# Altium footprint library PCB.PcbLib: 20 footprints (part 1 of 2)
Each footprint in its own frame and in the unit in brackets; x right, y up, seen from the top. Pads: shape width x height; smd on the part's side, far side on the other; paste and mask are expansions set on the pad; w line width, h text height; cw(c..) or ccw(c..) is an arc to the next point about the centre after c.
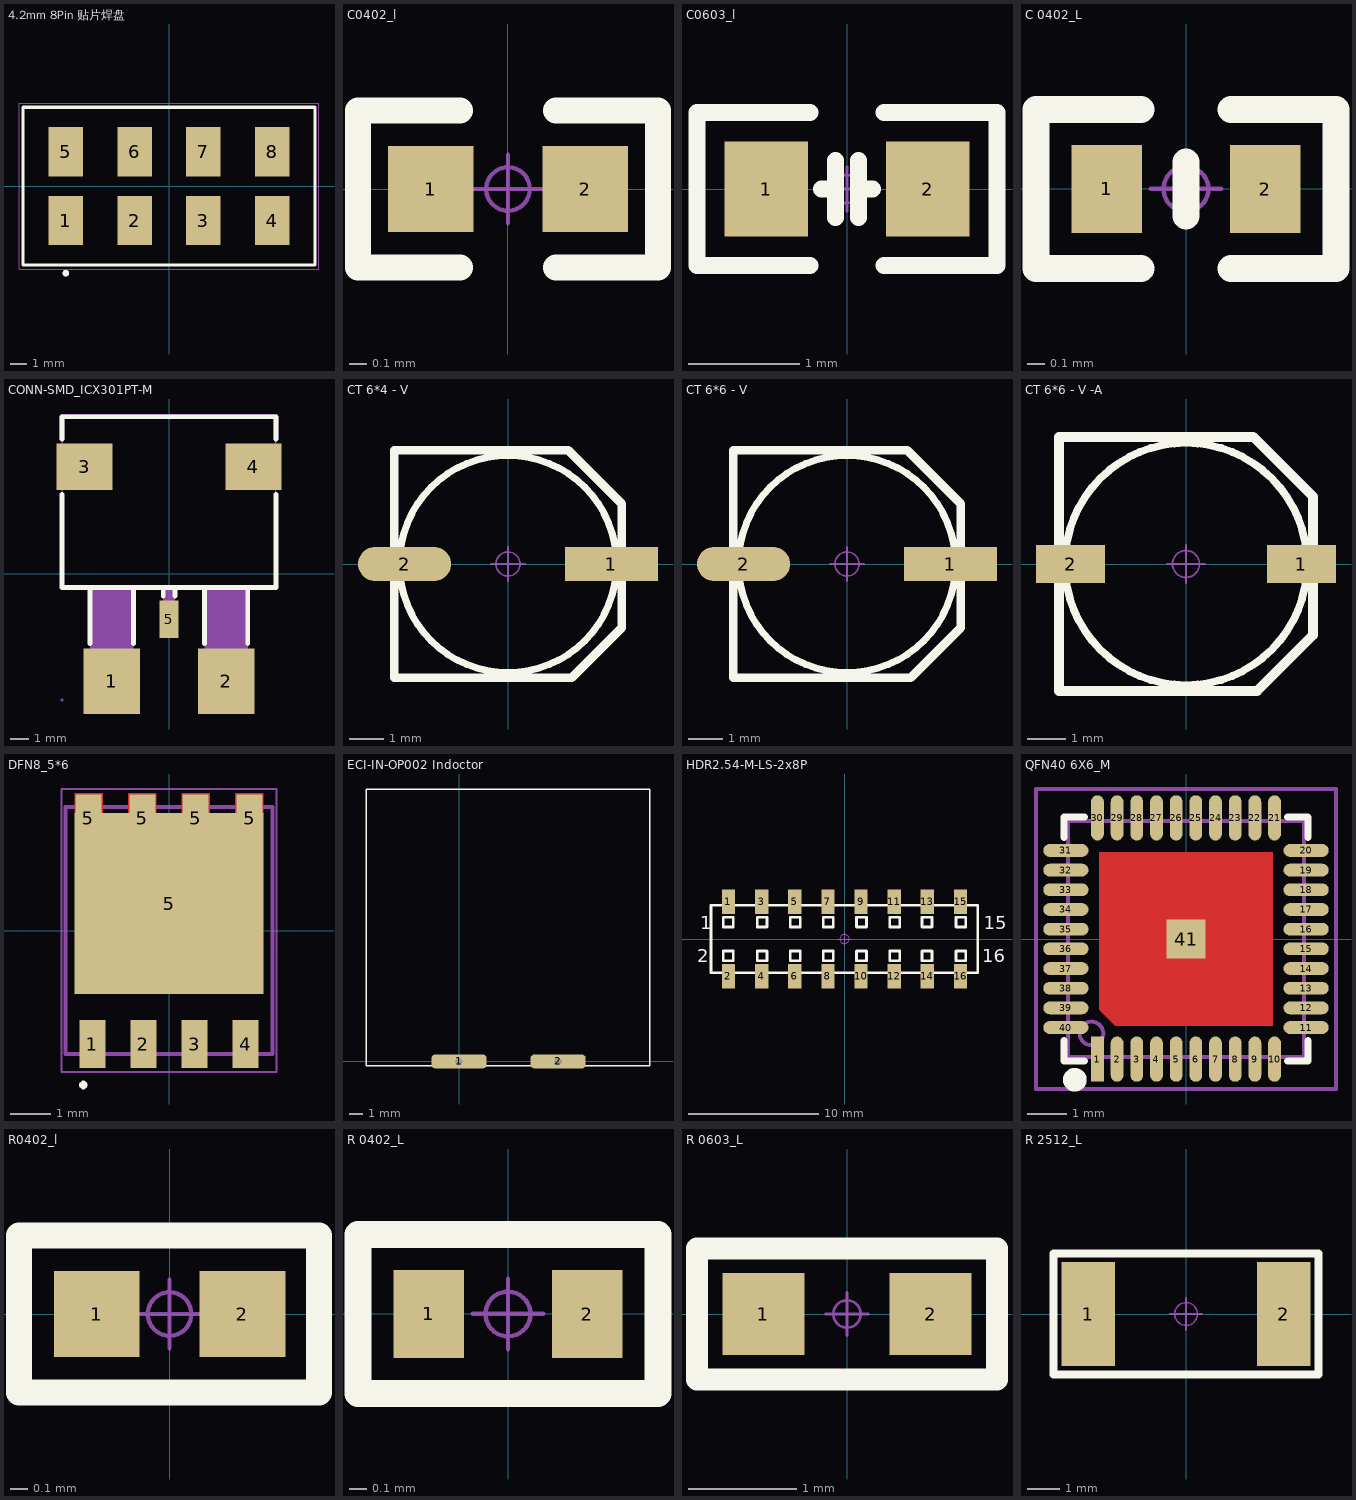
[diagram p0: the footprints below, top view; thin cyan lines are the x and y axes]

## 4.2mm 8Pin 贴片焊盘 [mm] "4.2mm 8Pin 贴片焊盘"
pads (8):
  rect 2.1x3 smd: 1(-6.285,-2.1) 2(-2.095,-2.1) 3(2.095,-2.1) 4(6.285,-2.1) 5(-6.285,2.1) 6(-2.095,2.1) 7(2.095,2.1) 8(6.285,2.1)
Top Overlay:
  circle w0.2: c-6.285,-5.3 r0.1
  lines w0.2: -8.885,-4.8 -8.885,4.8 8.885,4.8 8.885,-4.8 -8.885,-4.8
Mechanical 13:
  circle w0.2: c-6.285,-5.3 r0.1
  lines w0.1: -8.885,-4.8 -8.885,4.8 8.885,4.8 8.885,-4.8 -8.885,-4.8
Mechanical 15:
  lines w0.05: -9.135,-5.05 -9.135,5.05 9.135,5.05 9.135,-5.05 -9.135,-5.05

## C0402_l [mm] "贴片MLCC电容"
height 1.1
pads (2):
  rect 0.5x0.5 smd: 1(-0.45,0) 2(0.45,0)
Top Overlay:
  lines w0.152: -0.279,-0.457 -0.875,-0.457 -0.875,0.457 -0.279,0.457 ; 0.279,-0.457 0.875,-0.457 0.875,0.457 0.279,0.457
Mechanical 15:
  circle w0.025: c0,0 r0.127
  lines w0.025: -0.2,0 0.2,0 ; 0,-0.2 0,0.2
3D body "C0402-B-2S.stp": height 0.5, standoff 0, extent -0.5,-0.25 0.5,0.25

## C0603_l [mm] "贴片MLCC电容"
height 1.1
pads (2):
  rect 0.75x0.85 smd: 1(-0.725,0) 2(0.725,0)
Top Overlay:
  lines w0.152: -0.33,-0.686 -1.346,-0.686 -1.346,0.686 -0.33,0.686 ; -0.229,0 -0.102,0 ; -0.102,-0.254 -0.102,0.254 ; 0.102,-0.254 0.102,0.254 ; 0.102,0 0.229,0 ; 0.33,-0.686 1.346,-0.686 1.346,0.686 0.33,0.686
Mechanical 15:
  circle w0.025: c0,0 r0.127
  lines w0.025: -0.2,0 0.2,0 ; 0,-0.2 0,0.2
3D body "C0603H08-2S.stp": height 0.8, standoff 0, extent -0.8,-0.4 0.8,0.4

## C 0402_L [mm] "无极性贴片电容"
pads (2):
  rect 0.4x0.5 smd: 1(-0.45,0) 2(0.45,0)
Top Overlay:
  lines w0.152: -0.254,-0.45 -0.85,-0.45 ; -0.254,0.45 -0.85,0.45 -0.85,-0.45 ; 0,-0.152 0,0.152 ; 0.254,-0.45 0.85,-0.45 0.85,0.45 0.254,0.45 ; -0.85,-0.45 -0.85,-0.45
Mechanical 15:
  circle w0.025: c0,0 r0.127
  lines w0.025: -0.2,0 0.2,0 ; 0,-0.2 0,0.2
3D body "C 0402.STEP": height 0.53, standoff 0.01, extent -0.5,-0.26 0.5,0.26

## CONN-SMD_ICX301PT-M [mm]
height 1.1
pads (5):
  rect 3x3.5 smd paste+0: 1(-3.05,-5.715) 2(3.05,-5.715)
  rect 3x2.5 smd paste+0: 3(-4.5,5.715) 4(4.5,5.715)
  rect 1x2 smd paste+0: 5(0,-2.415)
Top Overlay:
  lines w0.254: -5.7,4.234 -5.7,-0.715 5.7,-0.715 5.7,4.234 ; -5.7,7.196 -5.7,8.385 5.7,8.385 5.7,7.196 ; -4.204,-3.7 -4.204,-0.715 ; -1.899,-3.7 -1.899,-0.715 ; -0.303,-1.184 -0.303,-0.715 ; 0.313,-1.184 0.313,-0.715 ; 1.896,-3.7 1.896,-0.715 ; 4.201,-3.7 4.201,-0.715
Mechanical 6:
  region: -5.827,7.2 -5.827,8.4 -5.827,8.425 -5.808,8.472 -5.772,8.508 -5.725,8.527 -5.7,8.527 5.7,8.527 5.725,8.527 5.772,8.508 5.808,8.472 5.827,8.425 5.827,8.4 5.827,7.2 5.827,7.147 5.753,7.073 5.647,7.073 5.573,7.147 5.573,7.2 5.573,8.273 -5.573,8.273 -5.573,7.2 -5.573,7.147 -5.647,7.073 -5.753,7.073 -5.827,7.147 -5.827,7.2
Mechanical 13:
  region: 3.3,4.815 3.3,6.615 5.7,6.615 5.7,4.815
  region: -3.3,6.615 -3.3,4.815 -5.7,4.815 -5.7,6.615
  region: -4.2,-4.315 -4.2,-0.615 -1.9,-0.615 -1.9,-4.315
  region: 1.9,-4.315 1.9,-0.615 4.2,-0.615 4.2,-4.315
  region: -4.25,-6.715 -4.25,-4.215 -1.85,-4.215 -1.85,-6.715
  region: 1.85,-6.715 1.85,-4.215 4.25,-4.215 4.25,-6.715
  region: -0.315,-1.795 0.315,-1.795 0.315,-3.095 -0.315,-3.095
  region: -0.315,-0.595 0.315,-0.595 0.315,-1.895 -0.315,-1.895
  lines w0.051: -5.7,-0.715 5.7,-0.715 5.7,8.385 -5.7,8.385 -5.7,-0.715
Mechanical 15:
  region: -5.7,-6.655 -5.675,-6.655 -5.64,-6.69 -5.64,-6.74 -5.675,-6.775 -5.7,-6.775 -5.725,-6.775 -5.76,-6.74 -5.76,-6.69 -5.725,-6.655 -5.7,-6.655
3D body "CN1~CONN-SMD_ICX301PT-M~icx301pt_m~vOsH.STEP": height 4.7, standoff -0.2, extent -5.65,-6.686 5.65,8.414

## CT 6*4 - V [mm] "直径6mm，高4mm"
height 1.1
pads (2):
  rect 2.7x1 smd: 1(3,0)
  oval 2.7x1 smd: 2(-3,0)
Top Overlay:
  circle w0.2: c0,0 r3.15
  lines w0.254: -3.3,-3.3 1.85,-3.3 3.3,-1.85 3.3,1.75 1.75,3.3 -3.3,3.3 -3.3,-3.3
Mechanical 15:
  circle w0.05: c0,0 r0.35
  lines w0.05: -0.5,0 0.5,0 ; 0,-0.5 0,0.5
3D body "CT 6X4-V.STEP": height 4, standoff -0.01, extent -3.5,-3.15 3.5,3.15

## CT 6*6 - V [mm] "直径6mm，高6mm"
height 1.1
pads (2):
  rect 2.7x1 smd: 1(3,0)
  oval 2.7x1 smd: 2(-3,0)
Top Overlay:
  circle w0.2: c0,0 r3.15
  lines w0.254: -3.3,-3.3 -3.3,3.3 1.75,3.3 3.3,1.75 3.3,-1.85 1.85,-3.3 -3.3,-3.3
Mechanical 15:
  circle w0.05: c0,0 r0.35
  lines w0.05: -0.5,0 0.5,0 ; 0,-0.5 0,0.5
3D body "CT 6X6-V.STEP": height 6, standoff -0.01, extent -3.5,-3.15 3.5,3.15

## CT 6*6 - V -A [mm] "直径6mm，高6mm"
height 1.1
pads (2):
  rect 1.8x1 smd: 1(3,0) 2(-3,0)
Top Overlay:
  circle w0.2: c0,0 r3.15
  lines w0.254: -3.3,-3.3 -3.3,3.3 1.75,3.3 3.3,1.75 3.3,-1.85 1.85,-3.3 -3.3,-3.3
Mechanical 15:
  circle w0.05: c0,0 r0.35
  lines w0.05: -0.5,0 0.5,0 ; 0,-0.5 0,0.5
3D body "CT 6X6-V.STEP": height 6, standoff -0.01, extent -3.5,-3.15 3.5,3.15

## DFN8_5*6 [mm] "TDSON, 8-Leads, Body 6.15x5.15mm, Pitch 1.27mm"
height 1
pads (9):
  rect 0.65x1.2 smd: 1(-1.905,-2.825) 2(-0.635,-2.825) 3(0.635,-2.825) 4(1.905,-2.825) 5(-2.007,2.794) 5(-0.66,2.794) 5(0.66,2.794) 5(2.007,2.794)
  rect 4.7x4.5 smd: 5(0,0.675)
Top Layer:
  region: 0.315,2.925 1.015,2.925 1.015,3.425 0.315,3.425
  region: -1.015,2.925 -0.315,2.925 -0.315,3.425 -1.015,3.425
  region: 1.65,2.925 2.35,2.925 2.35,3.425 1.65,3.425
  region: -2.35,2.925 -1.65,2.925 -1.65,3.425 -2.35,3.425
Top Overlay:
  region: -2.234,-3.842 -2.234,-3.862 -2.218,-3.899 -2.19,-3.927 -2.153,-3.942 -2.134,-3.942 -2.114,-3.942 -2.077,-3.927 -2.049,-3.899 -2.034,-3.862 -2.034,-3.842 -2.034,-3.822 -2.049,-3.785 -2.077,-3.757 -2.114,-3.742 -2.134,-3.742 -2.153,-3.742 -2.19,-3.757 -2.218,-3.785 -2.234,-3.822
Mechanical 13:
  lines w0.1: -2.575,-3.075 2.575,-3.075 2.575,3.075 -2.575,3.075 -2.575,-3.075
Mechanical 15:
  lines w0.05: -2.675,-3.525 2.675,-3.525 2.675,3.525 -2.675,3.525 -2.675,-3.525
  lines w0.1: -0.5,0 0.5,0 ; 0,-0.5 0,0.5
3D body: height 1, standoff 0, extent -2.575,-3.075 2.575,3.075

## ECI-IN-OP002 Indoctor [mm] "大电流扁线电感"
pads (2):
  rrect50% 4x1 hole 0.5 square: 1(0,0) 2(7.2,0)
Top Overlay:
  lines w0.1: -6.744,-0.305 -6.744,19.79 13.856,19.79 13.856,-0.305 -6.744,-0.305
3D body "ECI-IN-OP002 Indoctor.STEP": height 10.02, standoff 0.02, extent -6.744,-0.305 13.856,19.79

## HDR2.54-M-LS-2x8P [mm] "脚距：2.54mm，贴片双排母"
height 1.1
pads (16):
  rect 1.02x1.9 smd: 1(-8.89,2.85) 2(-8.89,-2.85) 3(-6.35,2.85) 4(-6.35,-2.85) 5(-3.81,2.85) 6(-3.81,-2.85) 7(-1.27,2.85) 8(-1.27,-2.85) 9(1.27,2.85) 10(1.27,-2.85) 11(3.81,2.85) 12(3.81,-2.85) 13(6.35,2.85) 14(6.35,-2.85) 15(8.89,2.85) 16(8.89,-2.85)
Top Overlay:
  lines w0.2: -10.23,-2.6 -10.23,2.6 10.22,2.6 10.22,-2.6 -10.23,-2.6 ; -9.301,-1.681 -9.301,-0.919 -8.539,-0.919 -8.539,-1.681 -9.301,-1.681 ; -9.301,0.919 -9.301,1.681 -8.539,1.681 -8.539,0.919 -9.301,0.919 ; -6.701,-1.681 -6.701,-0.919 -5.939,-0.919 -5.939,-1.681 -6.701,-1.681 ; -6.701,0.919 -6.701,1.681 -5.939,1.681 -5.939,0.919 -6.701,0.919 ; -4.161,-1.681 -3.399,-1.681 -3.399,-0.919 -4.161,-0.919 -4.161,-1.681 ; -4.161,0.919 -3.399,0.919 -3.399,1.681 -4.161,1.681 -4.161,0.919 ; -1.621,-1.681 -1.621,-0.919 -0.859,-0.919 -0.859,-1.681 -1.621,-1.681 ; -1.621,0.919 -1.621,1.681 -0.859,1.681 -0.859,0.919 -1.621,0.919 ; 0.919,-1.681 0.919,-0.919 1.681,-0.919 1.681,-1.681 0.919,-1.681 ; 0.919,0.919 0.919,1.681 1.681,1.681 1.681,0.919 0.919,0.919 ; 3.459,-1.681 3.459,-0.919 4.221,-0.919 4.221,-1.681 3.459,-1.681 ; 3.459,0.919 3.459,1.681 4.221,1.681 4.221,0.919 3.459,0.919 ; 5.939,-1.681 6.701,-1.681 6.701,-0.919 5.939,-0.919 5.939,-1.681 ; 5.939,0.919 6.701,0.919 6.701,1.681 5.939,1.681 5.939,0.919 ; 8.539,-1.681 9.301,-1.681 9.301,-0.919 8.539,-0.919 8.539,-1.681 ; 8.539,0.919 9.301,0.919 9.301,1.681 8.539,1.681 8.539,0.919
  text "16" at 10.541,-1.778 h1.02
  text "15" at 10.668,0.762 h1.02
  text "1" at -11.049,0.762 h1.02
  text "2" at -11.303,-1.778 h1.02
Mechanical 15:
  circle w0.05: c0,0 r0.35
  lines w0.05: -0.5,0 0.5,0 ; 0,-0.5 0,0.5
3D body "HDR2.54 2x1P_M.STEP": height 5.15, standoff 0, extent -5.11,-3.2 -2.51,3.2
3D body "HDR2.54 2x1P_M.STEP": height 5.15, standoff 0, extent -7.65,-3.2 -5.05,3.2
3D body "HDR2.54 2x1P_M.STEP": height 5.15, standoff 0, extent -10.19,-3.2 -7.59,3.2
3D body "HDR2.54 2x1P_M.STEP": height 5.15, standoff 0, extent -2.57,-3.2 0.03,3.2
3D body "HDR2.54 2x1P_M.STEP": height 5.15, standoff 0, extent -0.03,-3.2 2.57,3.2
3D body "HDR2.54 2x1P_M.STEP": height 5.15, standoff 0, extent 2.51,-3.2 5.11,3.2
3D body "HDR2.54 2x1P_M.STEP": height 5.15, standoff 0, extent 5.05,-3.2 7.65,3.2
3D body "HDR2.54 2x1P_M.STEP": height 5.15, standoff 0, extent 7.59,-3.2 10.19,3.2

## QFN40 6X6_M [mm] "40脚，长x宽x高：6x6x1mm，脚距：0.5mm"
pads (41):
  rect 0.325x1.15 smd mask+0.051: 1(-2.25,-3.051)
  oval 0.325x1.15 smd mask+0.051: 2(-1.75,-3.051) 3(-1.25,-3.051) 4(-0.75,-3.051) 5(-0.25,-3.051) 6(0.25,-3.051) 7(0.75,-3.051) 8(1.25,-3.051) 9(1.75,-3.051) 10(2.25,-3.051) 21(2.25,3.076) 22(1.75,3.076) 23(1.25,3.076) 24(0.75,3.076) 25(0.25,3.076) 26(-0.25,3.076) 27(-0.75,3.076) 28(-1.25,3.076) 29(-1.75,3.076) 30(-2.25,3.076)
  oval 1.15x0.325 smd mask+0.051: 11(3.051,-2.25) 12(3.051,-1.75) 13(3.051,-1.25) 14(3.051,-0.75) 15(3.051,-0.25) 16(3.051,0.25) 17(3.051,0.75) 18(3.051,1.25) 19(3.051,1.75) 20(3.051,2.25) 31(-3.051,2.25) 32(-3.051,1.75) 33(-3.051,1.25) 34(-3.051,0.75) 35(-3.051,0.25) 36(-3.051,-0.25) 37(-3.051,-0.75) 38(-3.051,-1.25) 39(-3.051,-1.75) 40(-3.051,-2.25)
  rect 1x1 smd mask+0.051: 41(0,0)
Top Layer:
  region: -2.2,2.2 2.2,2.2 2.2,-2.2 -1.8,-2.2 -2.2,-1.8
Top Overlay:
  circle w0.3: c-2.825,-3.575 r0.15
  lines w0.178: -3.1,-2.575 -3.1,-3.1 -2.575,-3.1 ; -3.1,2.575 -3.1,3.1 -2.575,3.1 ; 2.575,-3.1 3.1,-3.1 3.1,-2.575 ; 2.575,3.1 3.1,3.1 3.1,2.575
Top Solder:
  region: -2.2,2.2 2.2,2.2 2.2,-2.2 -1.8,-2.2 -2.2,-1.8
Mechanical 13:
  circle w0.1: c-2.4,-2.4 r0.3
  lines w0.1: -3,-3 -3,3 3,3 3,-3 -3,-3
Mechanical 15:
  circle w0.05: c0,0 r0.35
  lines w0.05: -0.5,0 0.5,0 ; 0,-0.5 0,0.5
  lines w0.1: -3.81,-3.81 3.81,-3.81 3.81,3.81 -3.81,3.81 -3.81,-3.81
3D body "QFN40-6X6.STEP": height 0.9, standoff -0.07, extent -3.01,-3.01 3.01,3.01

## R0402_l [mm] "1/16W贴片电阻"
pads (2):
  rect 0.5x0.5 smd: 1(-0.425,0) 2(0.425,0)
Top Overlay:
  lines w0.152: -0.878,-0.457 -0.878,0.457 0.872,0.457 0.872,-0.457 -0.878,-0.457
Mechanical 15:
  circle w0.025: c0,0 r0.127
  lines w0.025: -0.2,0 0.2,0 ; 0,-0.2 0,0.2
3D body "R0402.STEP": height 0.3, standoff 0, extent -0.5,-0.25 0.5,0.25

## R 0402_L [mm] "1/16W贴片电阻"
pads (2):
  rect 0.4x0.5 smd: 1(-0.45,0) 2(0.45,0)
Top Overlay:
  lines w0.152: -0.85,-0.45 -0.85,-0.45 ; -0.85,-0.45 -0.85,0.45 -0.254,0.45 0.85,0.45 0.85,-0.45 -0.254,-0.45 -0.85,-0.45
Mechanical 15:
  circle w0.025: c0,0 r0.127
  lines w0.025: -0.2,0 0.2,0 ; 0,-0.2 0,0.2
3D body "R 0402.STEP": height 0.3, standoff 0, extent -0.5,-0.25 0.5,0.25

## R 0603_L [mil] "1/10W贴片电阻"
height 43.31
pads (2):
  rect 30x30 smd: 1(-30.59,0) 2(30.59,0)
Top Overlay:
  lines w8: -16,24 54.82,24 54.82,-24 -15,-24 -54.82,-24 -54.82,24 -15,24
Mechanical 15:
  circle w1: c0,0 r5
  lines w1: -7.87,0 7.87,0 ; 0,-7.87 0,7.87
3D body "R 0603.STEP": height 15.79, standoff -0.13, extent -31.49,-15.74 31.5,15.75

## R 2512_L [mm] "1W贴片电阻"
pads (2):
  rect 1.65x3.2 smd: 1(-3,0) 2(3,0)
Top Overlay:
  lines w0.254: -4.064,-1.854 -4.064,1.854 4.064,1.854 4.064,-1.854 -4.064,-1.854
Mechanical 15:
  circle w0.05: c0,0 r0.35
  lines w0.05: -0.5,0 0.5,0 ; 0,-0.5 0,0.5
3D body "R 2512.STEP": height 0.55, standoff -0.02, extent -3.2,-1.6 3.2,1.6